# Altium integrated library TB007-508-03BE.IntLib: 1 symbol
Pins are listed as number, name and electrical type; pins without a type are passive.

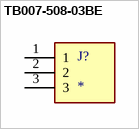
[diagram p0: symbol TB007-508-03BE]

## TB007-508-03BE
designator J?
MP: TB007-508-03BE; Availability: Unavailable; Price: None; Value: *; Package: None
footprint CUI_TB007-508-03BE
pins: 1, 2, 3